# Altium schematic symbol library AcqBoxLib.SchLib: 52 symbols
Pins are listed as number, name and electrical type; pins without a type are passive.

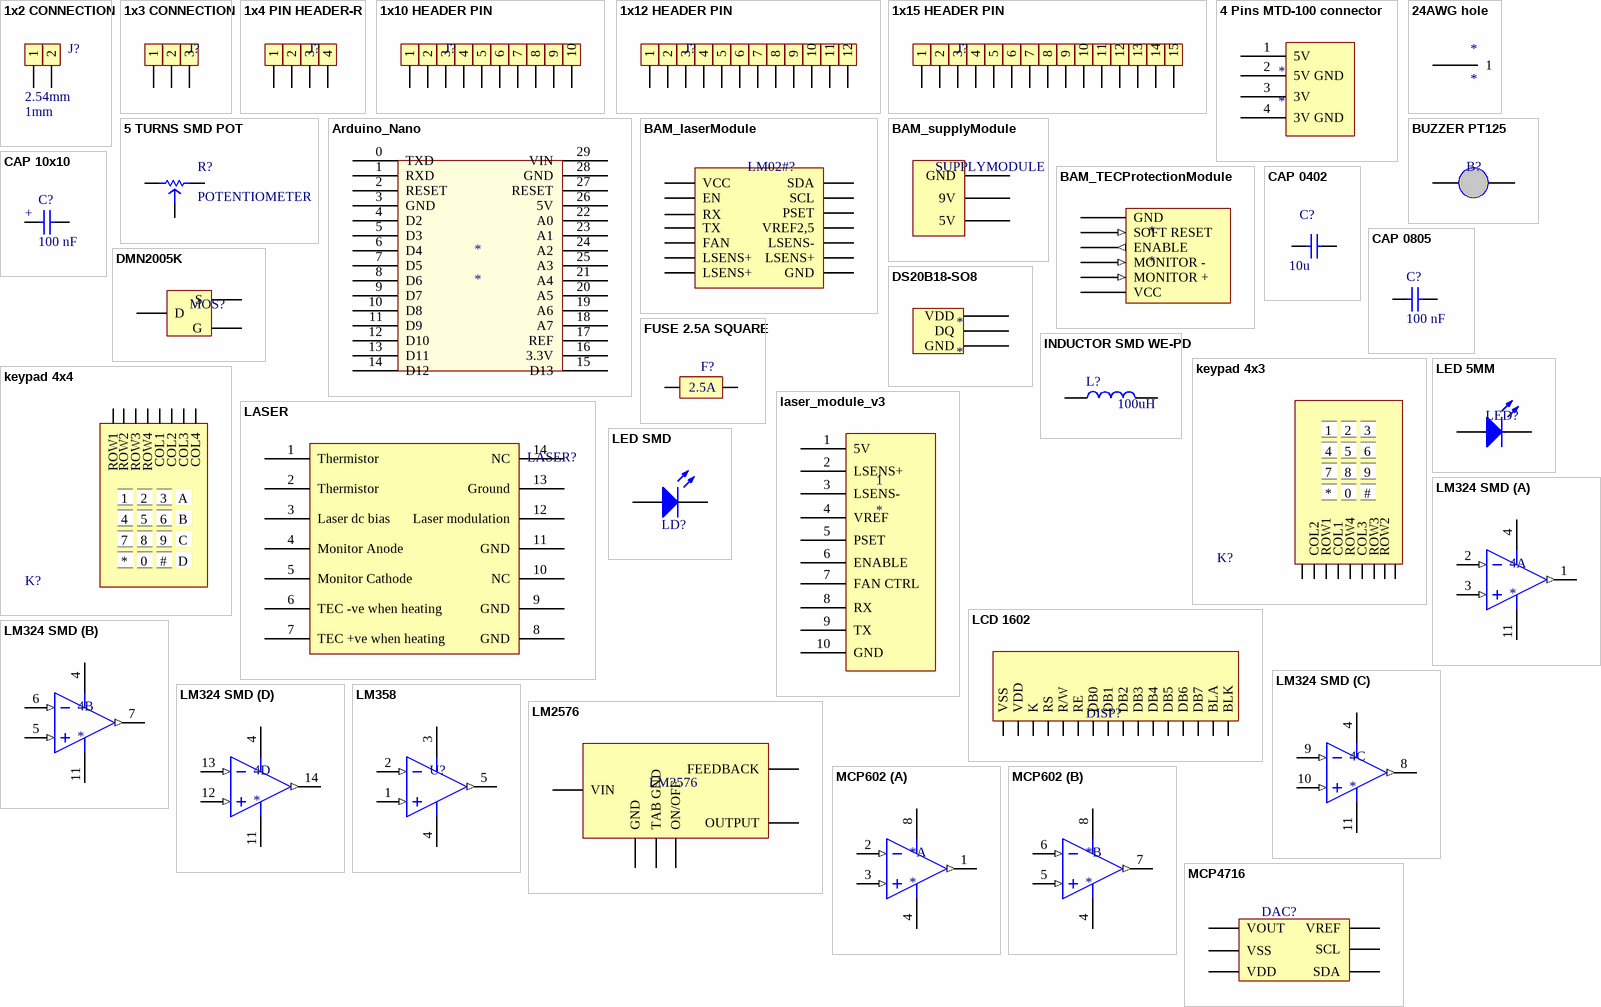
[diagram p0: symbols 1x2 CONNECTION to MCP4716]

## 1x2 CONNECTION
designator J?  pitch: 2.54mm  hole: 1mm
1x2 connection, pitch2.54mm, hole 1mm
footprint 1x2 HOLES (Holes, pitch 2.54mm, diameter 1.0mm)
footprint 1x2 PIN HEADER (Header Pins, pitch 2.54mm, diameter 1.0mm)
footprint 1x2 PIN HEADER 90DEG (1x2 Male Header Pins Right Angled, pitch 2.54mm, diameter 1.0mm)
footprint 1x2 PIN HEADER REVERSED (1x2 Male Header Pins Reversed, pitch 2.54mm, diameter 1.0mm)
pins: 1, 2

## 1x3 CONNECTION
designator J?
1x3 connection, pitch2.54mm, hole 1mm; pitch: 2.54mm; hole: 1mm
pins: 1, 2, 3

## 1x4 PIN HEADER-R
designator J?  (value not drawn)
footprint 1x4 REVERSE
footprint 1x4 PIN HEADER-R
pins: 1, 2, 3, 4

## 1x10 HEADER PIN
designator J?  (value not drawn)
footprint 1x10 PIN HEADER
footprint 1x10 PIN HEADER-R
pins: 1, 2, 3, 4, 5, 6, 7, 8, 9, 10

## 1x12 HEADER PIN
designator J?  (value not drawn)
footprint 1x12 PIN HEADER
pins: 1, 2, 3, 4, 5, 6, 7, 8, 9, 10, 11, 12

## 1x15 HEADER PIN
designator J?  (value not drawn)
footprint 1x15 PIN HEADER
pins: 1, 2, 3, 4, 5, 6, 7, 8, 9, 10, 11, 12, 13, 14, 15

## 4 Pins MTD-100 connector
designator *
footprint MTA-100 4POS CONN
pins: 1 5V, 2 5V GND, 3 3V, 4 3V GND

## 5 TURNS SMD POT
designator R?, comment POTENTIOMETER
TRIMMER J LEAD SIDE; RESISTANCE: 50; TURNS: 5
footprint SMD POT 4.8x4.6
pins: 1, 2, 3

## 24AWG hole
designator *
footprint 24AWG hole
pins: 1

## Arduino_Nano
designator *
footprint Arduino_Nanno
pins: 0 TXD, 1 RXD, 2 RESET, 3 GND, 4 D2, 5 D3, 6 D4, 7 D5, 8 D6, 9 D7, 10 D8, 11 D9, 12 D10, 13 D11, 14 D12, 15 D13, 16 3.3V, 17 REF, 18 A7, 19 A6, 20 A5, 21 A4, 22 A0, 23 A1, 24 A2, 25 A3, 26 5V, 27 RESET, 28 GND, 29 VIN

## BAM_laserModule
designator LM02#?, comment LM-02  (value not drawn)
footprint BAM_LASERMODULE
pins: 1 VCC, 1 EN, 1 RX, 1 TX, 1 FAN, 1 SDA, 1 SCL, 1 PSET, 1 LSENS+, 1 LSENS-, 1 LSENS+, 1 LSENS+, 8 GND, 8 VREF2,5

## BAM_supplyModule
designator SUPPLYMODULE  (value not drawn)
footprint BAM_supplyModule
pins: 1 GND, 3 9V, 4 5V

## BAM_TECProtectionModule
designator *
footprint BAM_PROTECTIONMODULE
pins: 1 GND, 2 SOFT RESET (in), 3 ENABLE (out), 4 MONITOR - (in), 5 MONITOR + (in), 6 VCC (power)

## BUZZER PT125
designator B?  (value not drawn)
Buzzer PT-125
footprint BUZZER 14mm (BUZZER 14mm diameter, 7.6mm pitch)
pins: 1, 2

## CAP 10x10
designator C?, comment 100 nF
Value: 5 pF
footprint CAP SMD ALU 10x10.2
pins: 1 +, 2 -

## CAP 0402
designator C?, comment Capacitance: 10u  (hidden comment: Cap)
footprint cap 0402
pins: 1, 2

## CAP 0805
designator C?, comment 100 nF
Value: 5 pF
footprint CAP 0805
footprint Cap 0805 - S
pins: 1, 2

## DMN2005K
designator MOS?  (value not drawn)
footprint SOT-23-3
pins: D, G, S

## DS20B18-SO8
designator *
footprint SO8
pins: 3 VDD, 4 DQ, 5 GND

## FUSE 2.5A SQUARE
designator F?, comment Rating: 2.5A  (hidden comment: 045202)
FUSE BRD MNT 2.5A 125VAC/VDC SMD
footprint Square End Block
pins: 1, 2

## INDUCTOR SMD WE-PD
designator L?  Inductance: 100uH  (hidden comment: *)
footprint INDUCTOR SMD WE-PD
pins: 1, 2

## keypad 4x3
designator K?  (value not drawn)
Keypad 4x3 sparkfun
footprint keypad 4x3
pins: 1, 2 COL2, 3 ROW1, 4 COL1, 5 ROW4, 6 COL3, 7 ROW3, 8 ROW2, 9
text: 1 /; 2 /; 3 /; 5 /; 8 /; 0; #

## keypad 4x4
designator K?  (value not drawn)
Keypad 4x4 grayhill
footprint 1x8 HOLES (1x8 Holes 1mm diameter 2.54mm pitch)
pins: 1 ROW1, 2 ROW2, 3 ROW3, 4 ROW4, 5 COL1, 6 COL2, 7 COL3, 8 COL4
text: 1 /; 2 /; 3 /; A; 5 /; B; 8 /; 9; C; 0; #; D

## LASER
designator LASER?  (value not drawn)
footprint LASER
pins: 1 Thermistor, 2 Thermistor, 3 Laser dc bias, 4 Monitor Anode, 5 Monitor Cathode, 6 TEC -ve when heating, 7 TEC +ve when heating, 8 GND, 9 GND, 10 NC, 11 GND, 12 Laser modulation, 13 Ground, 14 NC

## laser_module_v3
designator 1
footprint LASER_MODULE_V3
pins: 1 5V, 2 LSENS+, 3 LSENS-, 4 VREF, 5 PSET, 6 ENABLE, 7 FAN CTRL, 8 RX, 9 TX, 10 GND

## LCD 1602
designator DISP?
LCD 1602
footprint LCD1602
pins: 1 VSS, 2 VDD, 3 K, 4 RS, 5 R/W, 6 RE, 7 DB0, 8 DB1, 9 DB2, 10 DB3, 11 DB4, 12 DB5, 13 DB6, 14 DB7, 15 BLA, 16 BLK

## LED 5MM
designator LED?  (value not drawn)
5mm LED
footprint LED 5mm
pins: + 1, - 2

## LED SMD
designator LD?, comment LED 1206  (value not drawn)
Color: Red
footprint LED
pins: 1, 2

## LM324 SMD
designator 4
footprint SOIC-14
part A pins: 1 OUT1 (out), 2 IN1- (in), 3 IN1+ (in), 4 VCC (power), 11 GND (power)
part B pins: 4 VCC (power), 5 IN1+ (in), 6 IN1- (in), 7 OUT1 (out), 11 GND (power)
part C pins: 4 VCC (power), 8 OUT1 (out), 9 IN1- (in), 10 IN1+ (in), 11 GND (power)
part D pins: 4 VCC (power), 11 GND (power), 12 IN1+ (in), 13 IN1- (in), 14 OUT1 (out)

## LM358
designator U?  (value not drawn)
simulation model LMX24_LM2902
pins: 1 IN1+ (in), 2 IN1- (in), 3 VCC (power), 4 GND (power), 5 OUT1 (out)

## LM2576
designator LM2576  (value not drawn)
footprint TO-223-5
pins: 5 ON/OFF, 5 FEEDBACK, 5 GND, 5 OUTPUT, 5 VIN, 6 TAB GND

## MCP602
designator *
footprint SOIC-8
part A pins: 1 OUT1 (out), 2 IN1- (in), 3 IN1+ (in), 4 GND (power), 8 VCC (power)
part B pins: 4 GND (power), 5 IN1+ (in), 6 IN1- (in), 7 OUT1 (out), 8 VCC (power)

## MCP4716
designator DAC?  (value not drawn)
footprint SOT-23-6
pins: 1 VOUT, 2 VSS, 3 VDD, 4 SDA, 5 SCL, 6 VREF

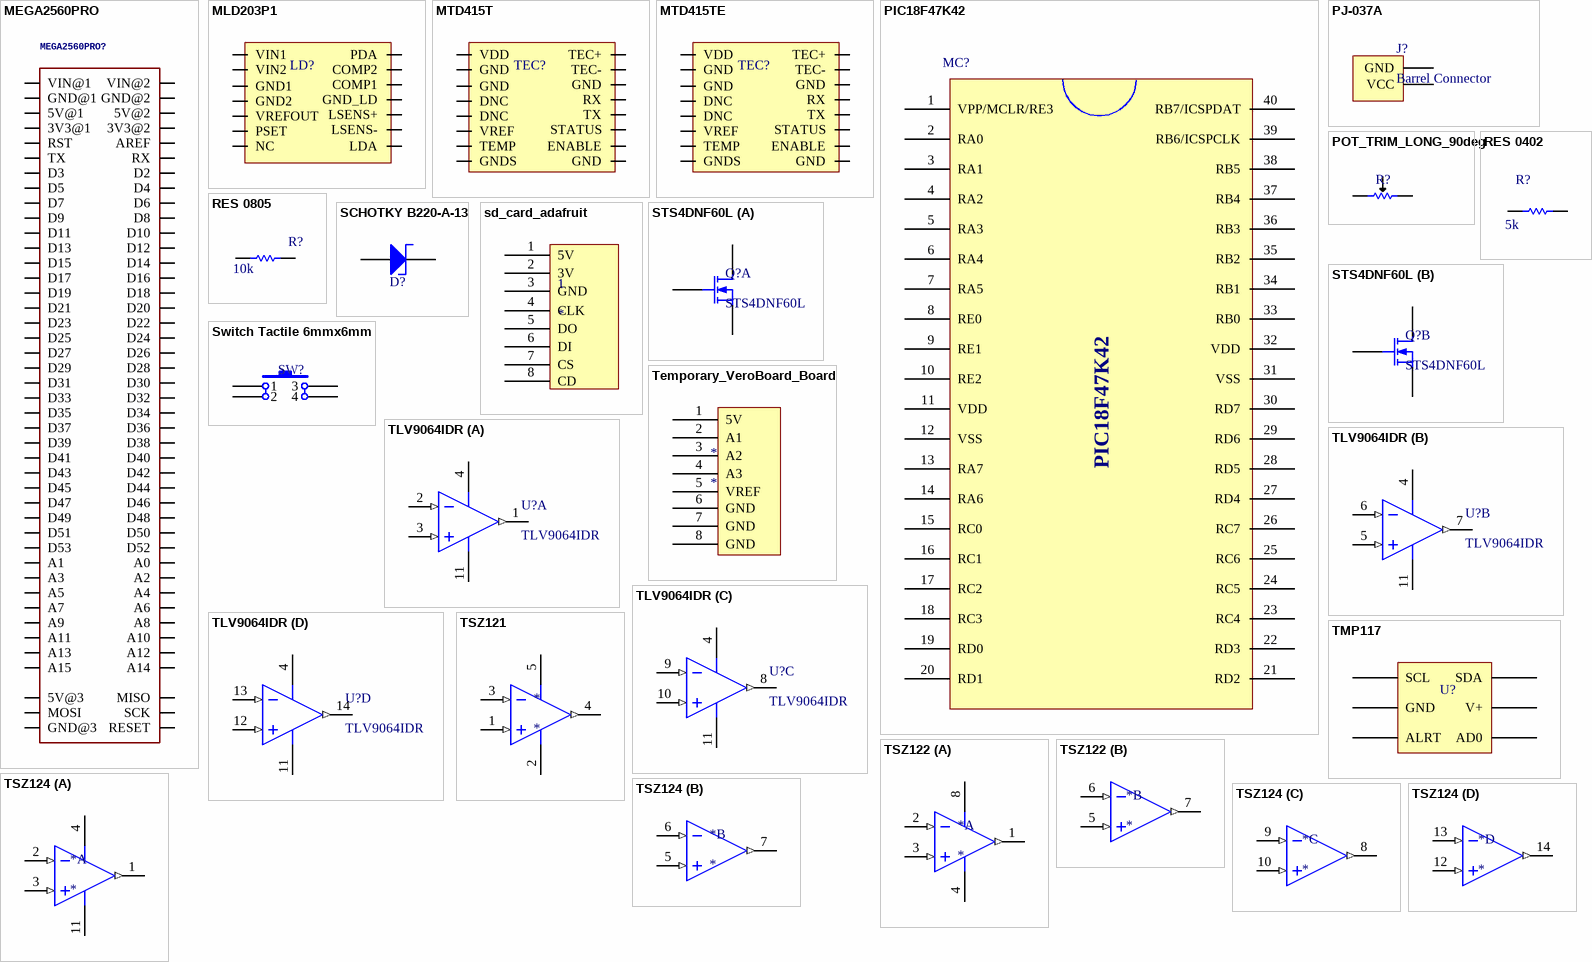
[diagram p1: symbols MEGA2560PRO to TSZ124]

## MEGA2560PRO
designator MEGA2560PRO?, comment RobotdynRobotdyn Mega 2560 PRO (Embed)https://robotdyn.com/mega-2560-pro-embed-ch340g-atmega2560-16au.html  (value not drawn)
GateName_1: G$1; SymbolName_1: MEGA2560PROE; LibraryName: robotdyn; DeviceSetName: MEGA2560PROE; Package: MEGA2560PRO
footprint MEGA2560PRO
pins: 3V3@1, 3V3@2, 5V@1, 5V@2, 5V@3, A0, A1, A2, A3, A4, A5, A6, A7, A8, A9, A10, A11, A12, A13, A14, A15, AREF, D2, D3, D4, D5, D6, D7, D8, D9, D10, D11, D12, D13, D14, D15, D16, D17, D18, D19, D20, D21, D22, D23, D24, D25, D26, D27, D28, D29, D30, D31, D32, D33, D34, D35, D36, D37, D38, D39, D40, D41, D42, D43, D44, D45, D46, D47, D48, D49, D50, D51, D52, D53, GND@1, GND@2, GND@3, MISO, MOSI, RESET, RST, RX, SCK, TX, VIN@1, VIN@2

## MLD203P1
designator LD?, comment LedDriver  (value not drawn)
footprint MLD203P1
pins: COMP1, COMP2, GND1, GND2, GND_LD, LDA, LSENS+, LSENS-, NC, PDA, PSET, VIN1, VIN2, VREFOUT

## MTD415T
designator TEC?
footprint MTD415T
pins: DNC@1 DNC, DNC@2 DNC, EN ENABLE, GND@1 GND, GND@2 GND, GND@3 GND, GND@4 GND, GNDS, RX, STATUS, TEC+, TEC-, TEMP, TX, VDD, VREF

## MTD415TE
designator TEC?
footprint MTD415TE
pins: 1 VDD, 1 STATUS, 2 GND, 3 GND, 4 DNC, 5 DNC, 6 VREF, 7 TEMP, 8 GNDS, 9 GND, 10 ENABLE, 12 TX, 13 RX, 14 GND, 15 TEC-, 16 TEC+

## PIC18F47K42
designator MC?  (value not drawn)
footprint 40-DIP W/ SOCKET (40 DIP package)
pins: 1 VPP/MCLR/RE3, 2 RA0, 3 RA1, 4 RA2, 5 RA3, 6 RA4, 7 RA5, 8 RE0, 9 RE1, 10 RE2, 11 VDD, 12 VSS, 13 RA7, 14 RA6, 15 RC0, 16 RC1, 17 RC2, 18 RC3, 19 RD0, 20 RD1, 21 RD2, 22 RD3, 23 RC4, 24 RC5, 25 RC6, 26 RC7, 27 RD4, 28 RD5, 29 RD6, 30 RD7, 31 VSS, 32 VDD, 33 RB0, 34 RB1, 35 RB2, 36 RB3, 37 RB4, 38 RB5, 39 RB6/ICSPCLK, 40 RB7/ICSPDAT

## PJ-037A
designator J?, comment Barrel Connector
footprint PJ-037A
pins: GND, VCC

## POT_TRIM_LONG_90deg
designator R?  (value not drawn)
footprint Potentiometer Trimmer 90deg
pins: 1, 2 1, 3 1

## RES 0402
designator R?, comment Resistance: 5k  (hidden comment: Res1)
footprint res 0402
pins: 1, 2

## RES 0805
designator R?  value 10k  (hidden comment: *)
SMD Resistor 0805
footprint RES 0805
pins: 1, 2

## SCHOTKY B220-A-13
designator D?  (value not drawn)
Color: Red
footprint DO-219AC, SMA
pins: 1, 2

## sd_card_adafruit
designator 1
footprint microSD_adafruit
pins: 1 5V, 2 3V, 3 GND, 4 CLK, 5 DO, 6 DI, 7 CS, 8 CD

## STS4DNF60L
designator Q?
Mosfet Array 2 N-Channel (Dual) 60V 4A 2W Surface Mount 8-SO
footprint SO8
part A pins: 1 S1, 2 G1, 8 D1
part B pins: 3 S2, 4 G2, 5 D2

## Switch Tactile 6mmx6mm
designator SW?, comment PTS645SL50SMTR92  (value not drawn)
SWITCH TACTILE SPST-NO 0.05A 12V
footprint Switch TAC 5mm
pins: 1, 1 2, 2 3, 2 4

## Temporary_VeroBoard_Board
designator *
footprint Temporary_VeroBoard_Board
pins: 1 5V, 2 A1, 3 A2, 4 A3, 5 VREF, 6 GND, 7 GND, 8 GND

## TLV9064IDR
designator U?
footprint SOIC-14
part A pins: 1 OUTA (out), 2 INA- (in), 3 INA+ (in), 4 V+ (power) "V+ Rail", 11 V- (power)
part B pins: 4 V+ (power), 5 INA+ (in), 6 INA- (in), 7 OUTA (out), 11 V- (power)
part C pins: 4 V+ (power), 8 OUTA (out), 9 INA- (in), 10 INA+ (in), 11 V- (power)
part D pins: 4 V+ (power), 11 V- (power), 12 INA+ (in), 13 INA- (in), 14 OUTA (out)

## TMP117
designator U?  (value not drawn)
0.1 Precision Temperature Sensor
footprint WSON-6
pins: 1 SCL, 2 GND, 3 ALRT, 4 AD0, 5 V+, 6 SDA

## TSZ121
designator *
footprint SC-70-5
pins: 1 INA+ (in), 2 V- (power), 3 INA- (in), 4 OUTA (out), 5 V+ (power) "V+ Rail"

## TSZ122
designator *
footprint SO8
part A pins: 1 OUTA (out), 2 INA- (in), 3 INA+ (in), 4 V- (power), 8 V+ (power) "V+ Rail"
part B pins: 5 INA+ (in), 6 INA- (in), 7 OUTA (out)

## TSZ124
designator *
footprint TSSOP14 (Shrink Small Outline; 14 Leads; Body Width 4.4 mm; Pitch 0.65 mm)
part A pins: 1 OUTA (out), 2 INA- (in), 3 INA+ (in), 4 V+ (power) "V+ Rail", 11 V- (power)
part B pins: 5 INA+ (in), 6 INA- (in), 7 OUTA (out)
part C pins: 8 OUTA (out), 9 INA- (in), 10 INA+ (in)
part D pins: 12 INA+ (in), 13 (in), 14 OUTA (out)